# Altium footprint library URB_ZP-6WR3.PcbLib: 1 footprints
Each footprint in its own frame and in the unit in brackets; x right, y up, seen from the top. Pads: shape width x height; smd on the part's side, far side on the other; paste and mask are expansions set on the pad; w line width, h text height; cw(c..) or ccw(c..) is an arc to the next point about the centre after c.
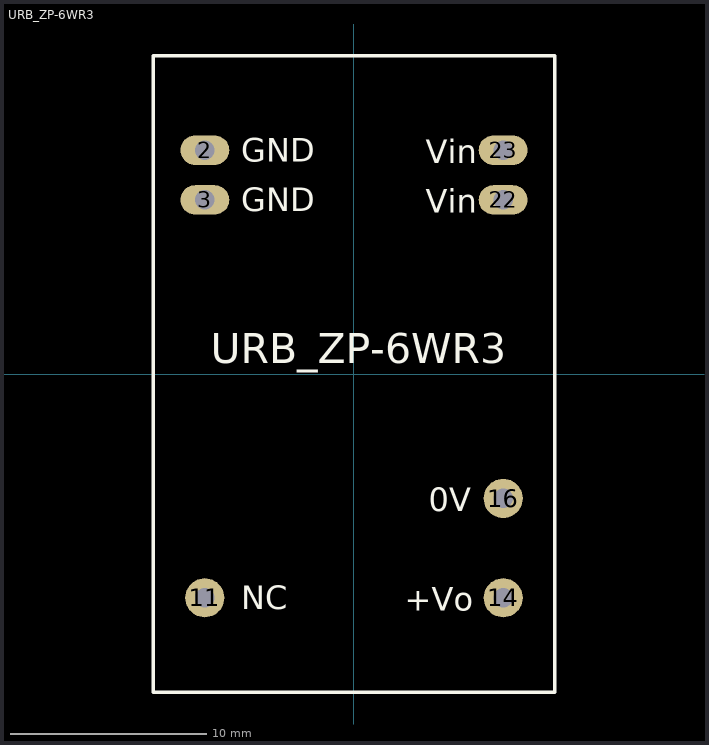
[diagram p0: the footprint, top view; thin cyan lines are the x and y axes]

## URB_ZP-6WR3 [mm]
pads (7):
  oval 2.5x1.5 hole 1: 2(-7.62,11.43) 3(-7.62,8.89) 22(7.62,8.89) 23(7.62,11.43)
  round 2 hole 1: 11(-7.62,-11.43) 14(7.62,-11.43) 16(7.62,-6.35)
Top Overlay:
  lines w0.17: -10.25,-16.25 -10.25,16.25 10.25,16.25 10.25,-16.25 -10.25,-16.25
  text "GND" at -5.749,10.851 h1.2
  text "GND" at -5.749,8.311 h1.2
  text "NC" at -5.749,-12.009 h1.2
  text "Vin" at 3.653,10.767 h1.2
  text "Vin" at 3.653,8.227 h1.2
  text "0V" at 3.808,-7.013 h1.2
  text "+Vo" at 2.597,-12.093 h1.2
  text "URB_ZP-6WR3" at -7.318,0.539 h1.52